# Altium schematic symbol library pads_element_1.SchLib: 1 symbol
Pins are listed as number, name and electrical type; pins without a type are passive.

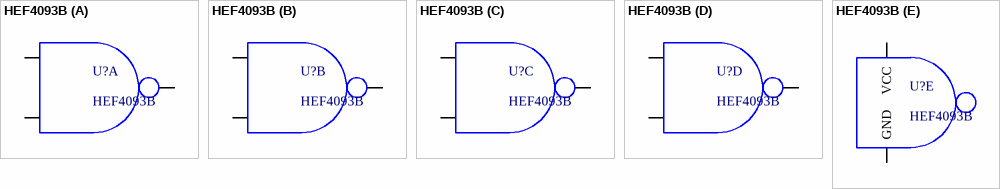
[diagram p0: symbol HEF4093B]

## HEF4093B
designator U?
Quad 2-input NAND Schmitt trigger; Manufacturer: NXP Semiconductors; Component_author: Kajetan Śpionek; Voltage max: 18V; Temperature_range: -65...150; Supply_voltage: 3..15V; Value: HEF4093BT; HelpURL: http://www.tme.eu/pl/Document/c9fdc73ba460f1285c95eb9bf328aa6a/HEF4093BP.pdf; Supplier 1: Farnell; Supplier Part Number 1: 2336694
footprint SO14 (Plastic small outline package - 14 leeds)
part A pins: 1 1A, 2 1B, 3 1Y
part B pins: 4 2Y, 5 2A, 6 2B
part C pins: 8 3A, 9 3B, 10 3Y
part D pins: 11 4Y, 12 4A, 13 4B
part E pins: 7 GND, 14 VCC